# Altium footprint library PCB1.PcbLib: 42 footprints (part 3 of 3)
Each footprint in its own frame and in the unit in brackets; x right, y up, seen from the top. Pads: shape width x height; smd on the part's side, far side on the other; paste and mask are expansions set on the pad; w line width, h text height; cw(c..) or ccw(c..) is an arc to the next point about the centre after c.
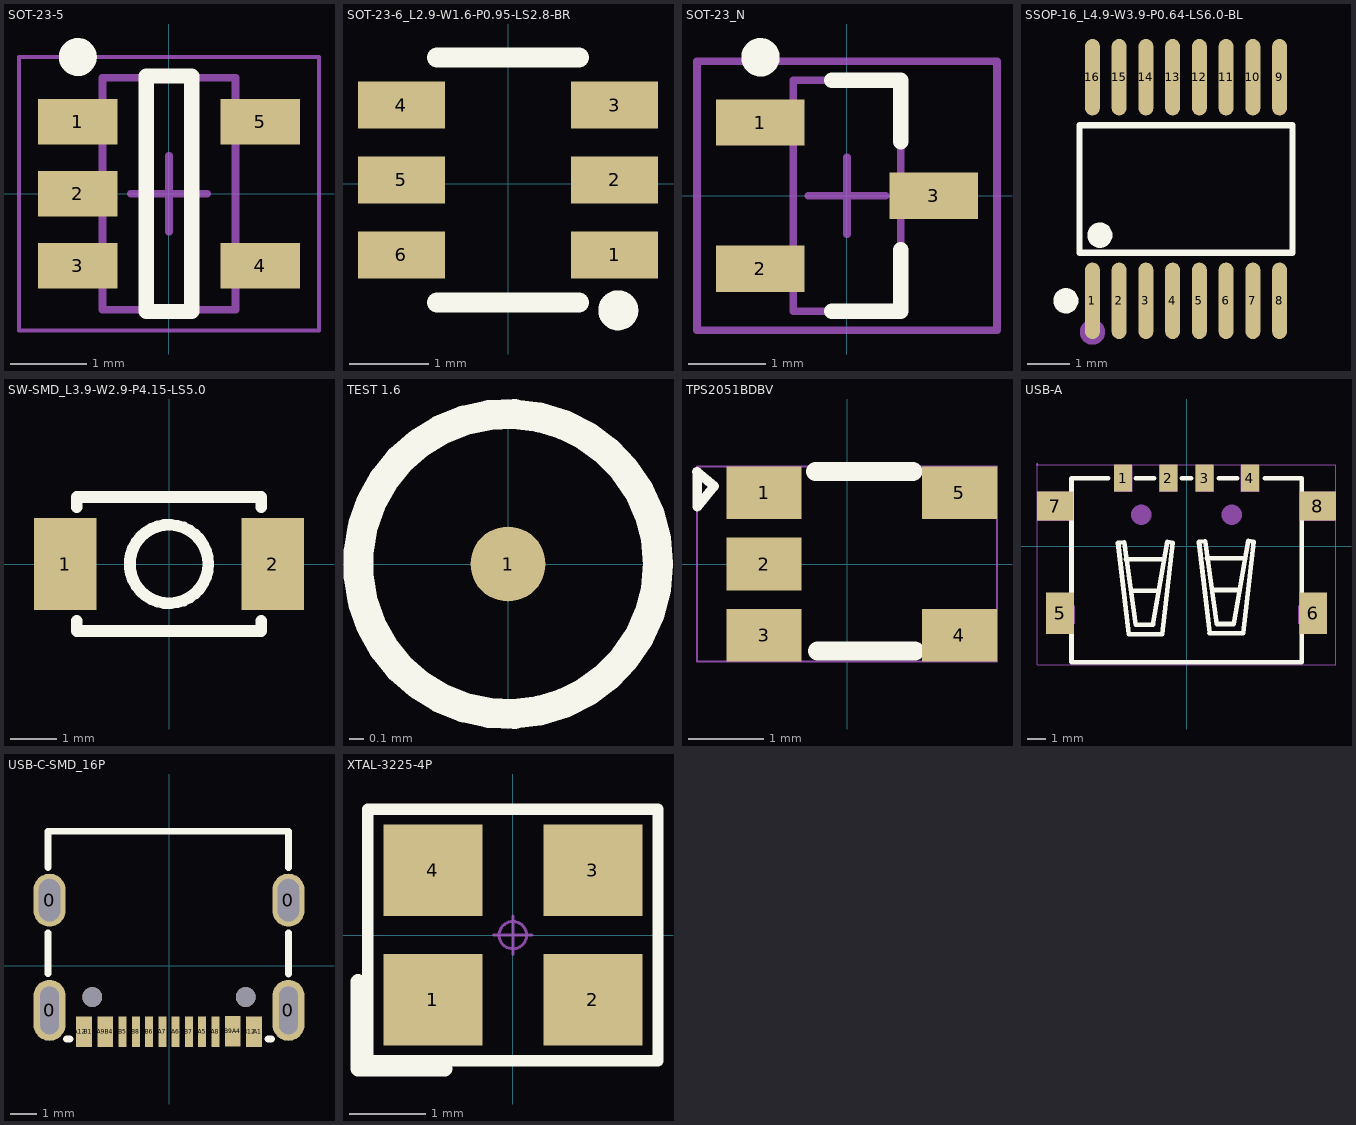
[diagram p2: the footprints below, top view; thin cyan lines are the x and y axes]

## SOT-23-5 [mm]
height 1.1
pads (5):
  rect 1.05x0.6 smd: 1(-1.2,0.95) 2(-1.2,0) 3(-1.2,-0.95) 4(1.2,-0.95) 5(1.2,0.95)
Top Overlay:
  circle w0.25: c-1.2,1.8 r0.125
  lines w0.2: -0.3,-1.55 0.3,-1.55 0.3,1.55 -0.3,1.55 -0.3,-1.55
Mechanical 13:
  lines w0.1: -0.875,-1.525 0.875,-1.525 0.875,1.525 -0.875,1.525 -0.875,-1.525
Mechanical 15:
  lines w0.05: -1.975,-1.8 -1.975,1.8 1.975,1.8 1.975,-1.8 -1.975,-1.8
  lines w0.1: -0.5,0 0.5,0 ; 0,-0.5 0,0.5
3D body "SOT23-5.STEP": height 1.15, standoff -0.03, extent -1.403,-1.5 1.403,1.5

## SOT-23-6_L2.9-W1.6-P0.95-LS2.8-BR [mm]
pads (6):
  rect 1.1x0.6 smd paste+0 mask+0.051: 1(1.35,-0.899) 2(1.35,0.051) 3(1.35,1.001) 4(-1.35,1.001) 5(-1.35,0.051) 6(-1.35,-0.899)
Top Overlay:
  circle w0.254: c1.397,-1.6 r0.127
  lines w0.254: -0.9,-1.5 0.9,-1.5 ; -0.9,1.6 0.9,1.6
Mechanical 15:
  circle w0.2: c1.4,-0.899 r0.1

## SOT-23_N [mm]
height 1.1
pads (3):
  rect 1.15x0.6 smd: 1(-1.125,0.95) 2(-1.125,-0.95) 3(1.125,0)
Top Overlay:
  circle w0.25: c-1.125,1.8 r0.125
  lines w0.2: -0.2,-1.5 0.7,-1.5 0.7,-0.7 ; -0.2,1.5 0.7,1.5 0.7,0.7
Mechanical 13:
  lines w0.1: -0.7,-1.5 -0.7,1.5 0.7,1.5 0.7,-1.5 -0.7,-1.5
Mechanical 15:
  lines w0.1: -0.5,0 0.5,0 ; 0,-0.5 0,0.5 ; -1.95,-1.75 -1.95,1.75 1.95,1.75 1.95,-1.75 -1.95,-1.75
3D body: height 1.1, standoff 0, extent -0.7,-1.5 0.7,1.5

## SSOP-16_L4.9-W3.9-P0.64-LS6.0-BL [mil]
pads (16):
  oval 14x71.45 smd paste+0 mask+2: 1(17916.92,-13588.69) 2(17941.92,-13588.69) 3(17966.92,-13588.69) 4(17991.92,-13588.69) 5(18016.92,-13588.69) 6(18041.92,-13588.69) 7(18066.92,-13588.69) 8(18091.92,-13588.69) 9(18091.92,-13379.64) 10(18066.92,-13379.64) 11(18041.92,-13379.64) 12(18016.92,-13379.64) 13(17991.92,-13379.64) 14(17966.92,-13379.64) 15(17941.92,-13379.64) 16(17916.92,-13379.64)
Top Overlay:
  circle w11.81: c17923.92,-13527.35 r5.91
  circle w11.81: c17892.11,-13588.69 r5.91
  lines w6: 17904.86,-13543.97 18103.97,-13543.97 18103.97,-13424.37 17904.86,-13424.37 17904.86,-13543.97
Mechanical 15:
  circle w11.81: c17916.92,-13617.93 r5.91

## SW-SMD_L3.9-W2.9-P4.15-LS5.0 [mm]
pads (2):
  rect 1.35x2 smd paste+0 mask+0.051: 1(-2.25,0) 2(2.25,0)
Top Overlay:
  circle w0.254: c0,0 r0.85
  lines w0.254: -2,-1.231 -2,-1.45 2,-1.45 2,-1.231 ; -2,1.231 -2,1.45 2,1.45 2,1.231

## TEST 1.6 [mil]
pads (1):
  round 20 smd paste-62.99: 1(0,0)
Top Overlay:
  circle w8: c0,0 r40

## TPS2051BDBV [mm]
pads (5):
  rect 1x0.7 smd: 1(-1.104,0.95) 2(-1.104,0) 3(-1.104,-0.95) 4(1.496,-0.95) 5(1.496,0.95)
Top Overlay:
  lines w0.127: -1.996,1.228 -1.768,1.037 -1.993,0.759 -1.993,1.229
  lines w0.254: -0.418,1.229 0.877,1.229 ; -0.393,-1.158 0.903,-1.158
Mechanical 9:
  text "2" at -1.104,0.254 h0.76
  text "4" at 1.496,-0.696 h0.76
  text "1" at -1.104,1.204 h0.76
  text "5" at 1.496,1.204 h0.76
  text "3" at -1.104,-0.696 h0.76
Mechanical 11:
  lines w0.025: -1.996,-1.3 1.996,-1.3 1.996,1.3 -1.996,1.3 -1.996,-1.3
Mechanical 12:
  lines w0.025: -1.996,-1.3 1.996,-1.3 1.996,1.3 -1.996,1.3 -1.996,-1.3

## USB-A [mm]
pads (8):
  rect 1x1.5 smd: 1(-3.5,3.77) 2(-1,3.77) 3(1,3.77) 4(3.5,3.77)
  rect 1.524x2.286 smd paste+0 mask+0.102: 5(-6.985,-3.683) 6(6.985,-3.683)
  rect 2x1.6 smd: 7(-7.25,2.23) 8(7.25,2.23)
Top Overlay:
  lines w0.254: -4.318,3.77 -6.35,3.77 -6.35,-6.39 6.35,-6.39 6.35,3.77 4.318,3.77 ; -3.353,-0.7 -1.27,-0.7 ; -3.023,-2.453 -1.575,-2.453 ; -2.794,3.77 -1.778,3.77 ; -0.254,3.77 0.254,3.77 ; 1.118,-0.65 3.2,-0.65 ; 1.448,-2.402 2.896,-2.402 ; 1.778,3.77 2.794,3.77 ; -3.782,0.206 -3.2,-4.841 -1.346,-4.841 -0.762,0.214 -1.067,0.265 -1.854,-4.333 -2.794,-4.333 -3.449,0.232 -3.782,0.206 ; 0.688,0.257 1.021,0.283 1.676,-4.282 2.616,-4.282 3.404,0.316 3.708,0.265 3.124,-4.79 1.27,-4.79 0.688,0.257
Mechanical 15:
  region: -4,4.52 -3,4.52 -3,3.02 -4,3.02
  region: -1.5,4.52 -0.5,4.52 -0.5,3.02 -1.5,3.02
  region: 0.5,4.52 1.5,4.52 1.5,3.02 0.5,3.02
  region: 3,4.52 4,4.52 4,3.02 3,3.02
  region: -8.25,3.03 -6.25,3.03 -6.25,1.43 -8.25,1.43
  region: 6.25,3.03 8.25,3.03 8.25,1.43 6.25,1.43
  region: 6.16,-4.27 6.16,-3.27 6.64,-3.27 6.64,-4.27
  region: -6.64,-4.27 -6.64,-3.27 -6.16,-3.27 -6.16,-4.27
  region: -1.95,1.75 -1.95,1.859 -2.034,2.062 -2.188,2.216 -2.391,2.3 -2.609,2.3 -2.812,2.216 -2.966,2.062 -3.05,1.859 -3.05,1.75 -3.05,1.641 -2.966,1.438 -2.812,1.284 -2.609,1.2 -2.391,1.2 -2.188,1.284 -2.034,1.438 -1.95,1.641 -1.95,1.75
  region: 3.05,1.75 3.05,1.859 2.966,2.062 2.812,2.216 2.609,2.3 2.391,2.3 2.188,2.216 2.034,2.062 1.95,1.859 1.95,1.75 1.95,1.641 2.034,1.438 2.188,1.284 2.391,1.2 2.609,1.2 2.812,1.284 2.966,1.438 3.05,1.641 3.05,1.75
  region: -8.19,4.52 -8.19,4.545 -8.225,4.58 -8.275,4.58 -8.31,4.545 -8.31,4.52 -8.31,4.495 -8.275,4.46 -8.225,4.46 -8.19,4.495 -8.19,4.52
  lines w0.051: -8.25,-6.517 -8.25,4.52 8.25,4.52 8.25,-6.517 -8.25,-6.517

## USB-C-SMD_16P [mm]
pads (22):
  oval 1.2x2.3 hole 0.7 slot 1.8 at 90 deg: 0(-4.5,-1.675) 0(4.5,-1.675)
  oval 1.2x2 hole 0.8 slot 1.6 at 90 deg: 0(-4.5,2.475) 0(4.5,2.475)
  rect 0.3x1.15 smd: A1(3.35,-2.473) A4(2.55,-2.471) A5(1.25,-2.475) A6(0.25,-2.475) A7(-0.25,-2.473) A9(-2.55,-2.475) A12(-3.35,-2.475) B1(-3.05,-2.475) B4(-2.25,-2.475) B5(-1.75,-2.475) B6(-0.75,-2.475) B7(0.75,-2.473) B9(2.25,-2.471) B12(3.05,-2.473)
  rect 0.3x1.148 smd: A8(1.75,-2.475) B8(-1.25,-2.475)
  round 0.75 hole 0.75 unplated: ""(-2.89,-1.175) ""(2.89,-1.175)
Top Overlay:
  lines w0.254: -4.557,-0.296 -4.557,1.246 ; -4.557,3.704 -4.557,5.075 4.5,5.075 4.5,3.698 ; -3.856,-2.75 -3.819,-2.75 -3.731,-2.75 ; 3.731,-2.75 3.856,-2.75 ; 4.5,-0.302 4.5,1.252
3D body "USB_TYPE-C_a.STEP": height 3.25, standoff -0.85, extent -4.445,-2.875 4.495,5.025

## XTAL-3225-4P [mm]
pads (4):
  rect 1.3x1.2 smd: 1(-1.05,-0.85) 2(1.05,-0.85) 3(1.05,0.85) 4(-1.05,0.85)
Top Overlay:
  lines w0.15: -1.905,-1.651 1.905,-1.651 1.905,1.651 -1.905,1.651 -1.905,-1.651
  lines w0.2: -2.032,-1.753 -0.889,-1.753 ; -2.032,-1.727 -2.032,-0.61
Mechanical 15:
  circle w0.04: c0,0 r0.18
  lines w0.04: -0.254,0 0.254,0 ; 0,-0.254 0,0.254
3D body "OSC_3225-4.STEP": height 0.7, standoff -0.02, extent -1.6,-1.25 1.6,1.25